# Altium footprint library 电源母板.PcbLib: 2 footprints
Each footprint in its own frame and in the unit in brackets; x right, y up, seen from the top. Pads: shape width x height; smd on the part's side, far side on the other; paste and mask are expansions set on the pad; w line width, h text height; cw(c..) or ccw(c..) is an arc to the next point about the centre after c.
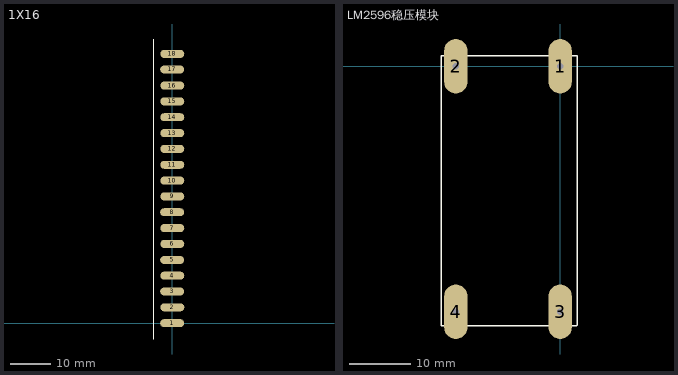
[diagram p0: the footprints below, top view; thin cyan lines are the x and y axes]

## 1X16 [mm]
pads (18):
  oval 6x2 smd: 1(0,0) 2(0.024,3.96) 3(0.001,7.92) 4(0.022,11.88) 5(0,15.795) 6(0.022,19.8) 7(0.022,23.76) 8(0,27.733) 9(0.022,31.68) 10(0.022,35.64) 11(0.022,39.6) 12(0.022,43.56) 13(0.022,47.52) 14(0.022,51.48) 15(0.022,55.44) 16(0.022,59.4) 17(0,63.42) 18(0.022,67.32)
Top Overlay:
  lines w0.254: -4.619,71.04 -4.61,71.031 -4.61,-3.96

## LM2596稳压模块 [mm]
pads (4):
  oval 3.81x8.89 hole 1.016: 1(0,0) 2(-17,0) 3(-0.005,-40) 4(-17,-40)
Top Overlay:
  lines w0.254: 2.711,1.751 -19.391,1.751 -19.391,-42.254 2.695,-42.254 2.754,-42.195 2.754,1.751